# EAGLE library part USBSERIAL (library me433)
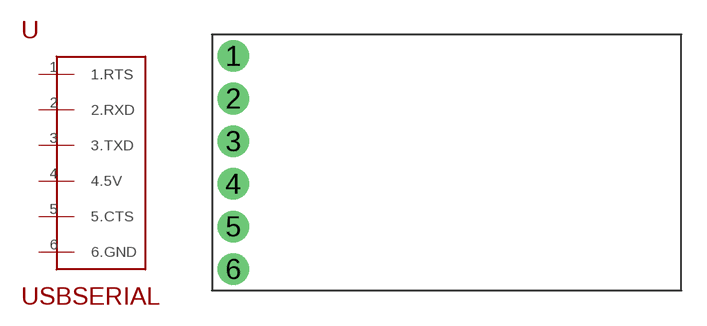
[diagram p8: symbol with the pads of USBSERIAL; footprint USBSERIAL]

Designator prefix -

## USBSERIAL  [USBSERIAL]
1  1.RTS
2  2.RXD
3  3.TXD
4  4.5V
5  5.CTS
6  6.GND

## Footprint USBSERIAL (pad centres in mm)
drill 1.016 pad 1.88: 1 0,6.35; 2 0,3.81; 3 0,1.27; 4 0,-1.27; 5 0,-3.81; 6 0,-6.35